# EAGLE library part RAK_WIRELESS_RAK811 (library lora-lorawan-modules)
RAK Wireless LoRaWAN module RAK811 Link: https://www.rakwireless.com/en/module/lora/RAK811
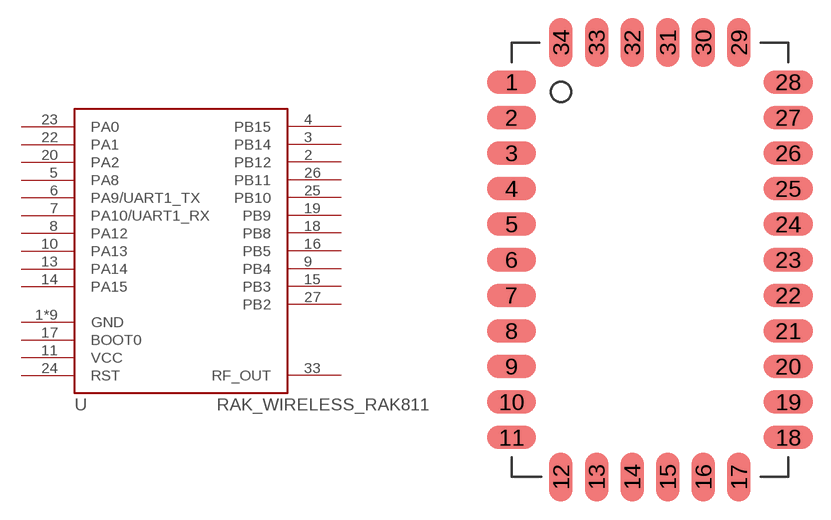
[diagram p3: symbol with the pads of RAK_WIRELESS_RAK811; footprint RAK_WIRELESS_RAK811]

Designator prefix -

## RAK_WIRELESS_RAK811  [RAK_WIRELESS_RAK811]
1  GND  pwr
2  PB12
3  PB14
4  PB15
5  PA8
6  PA9/UART1_TX
7  PA10/UART1_RX  in
8  PA12
9  PB4  in
10  PA13
11  VCC  pwr
12  GND  pwr
13  PA14
14  PA15
15  PB3
16  PB5
17  BOOT0  in
18  PB8
19  PB9
20  PA2
21  GND  pwr
22  PA1  in
23  PA0
24  RST  in
25  PB10
26  PB11
27  PB2
28  GND  pwr
29  GND  pwr
30  GND  pwr
31  GND  pwr
32  GND  pwr
33  RF_OUT
34  GND  pwr

## Footprint RAK_WIRELESS_RAK811 (pad centres in mm)
smd 2.5 x 1.2: 1 0,20; 2 0,18.2; 3 0,16.4; 4 0,14.6; 5 0,12.8; 6 0,11; 7 0,9.2; 8 0,7.4; 9 0,5.6; 10 0,3.8; 11 0,2; 18 14,2; 19 14,3.8; 20 14,5.6; 21 14,7.4; 22 14,9.2; 23 14,11; 24 14,12.8; 25 14,14.6; 26 14,16.4; 27 14,18.2; 28 14,20
smd 1.2 x 2.5: 12 2.5,0; 13 4.3,0; 14 6.1,0; 15 7.9,0; 16 9.7,0; 17 11.5,0; 29 11.5,22; 30 9.7,22; 31 7.9,22; 32 6.1,22; 33 4.3,22; 34 2.5,22